# Altium footprint library TC2030-MCP-NL.PcbLib: 1 footprints
Each footprint in its own frame and in the unit in brackets; x right, y up, seen from the top. Pads: shape width x height; smd on the part's side, far side on the other; paste and mask are expansions set on the pad; w line width, h text height; cw(c..) or ccw(c..) is an arc to the next point about the centre after c.
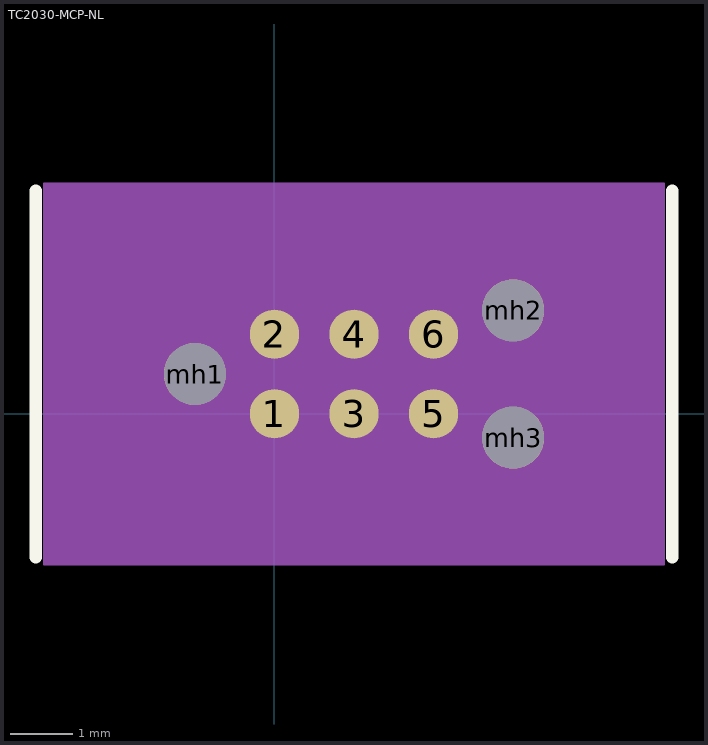
[diagram p0: the footprint, top view; thin cyan lines are the x and y axes]

## TC2030-MCP-NL [mil] "TAG CONNECT - WITH LEGS"
pads (9):
  round 31 smd: 1(0,0) 2(0,50) 3(50,0) 4(50,50) 5(100,0) 6(100,50)
  round 39 hole 39 unplated: mh1(-50,25) mh2(150,65) mh3(150,-15)
Top Overlay:
  lines w8: -150,-90 -150,140 ; 250,-90 250,140
Top Assembly:
  circle w1: c150,-15 r20
  circle w1: c150,65 r20
  circle w1: c100,0 r11.18
  circle w1: c50,0 r11.18
  circle w1: c50,50 r11.18
  circle w1: c0,50 r11.18
  circle w1: c100,50 r11.18
  circle w1: c-50,25 r20
  lines w1: -145,-95 245,-95 245,145 -145,145 -145,-95 ; -125,-75 225,-75 225,125 -125,125 -125,-75 ; -10,-10 10,-10 10,10 -10,10 -10,-10
Top Courtyard:
  region: -145,-95 245,-95 245,145 -145,145
3D body "TC2030.stp": height 1566.93, standoff -66.93, extent -138.98,-93.11 235.04,143.11